# Altium footprint library SOIC28.PcbLib: 3 footprints
Each footprint in its own frame and in the unit in brackets; x right, y up, seen from the top. Pads: shape width x height; smd on the part's side, far side on the other; paste and mask are expansions set on the pad; w line width, h text height; cw(c..) or ccw(c..) is an arc to the next point about the centre after c.
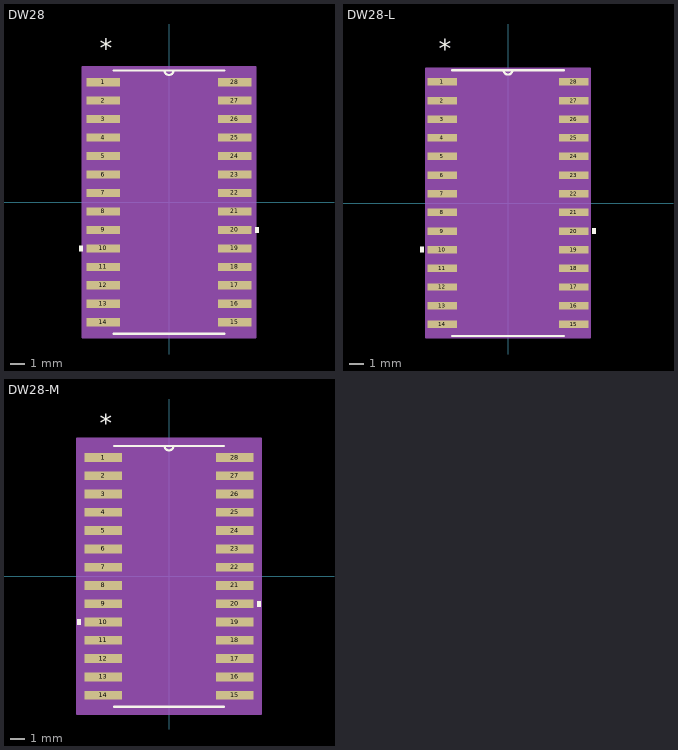
[diagram p0: the footprints below, top view; thin cyan lines are the x and y axes]

## DW28 [mil]
pads (28):
  rect 91x22 smd: 1(-178,325) 2(-178,275) 3(-178,225) 4(-178,175) 5(-178,125) 6(-178,75) 7(-178,25) 8(-178,-25) 9(-178,-75) 10(-178,-125) 11(-178,-175) 12(-178,-225) 13(-178,-275) 14(-178,-325) 15(178,-325) 16(178,-275) 17(178,-225) 18(178,-175) 19(178,-125) 20(178,-75) 21(178,-25) 22(178,25) 23(178,75) 24(178,125) 25(178,175) 26(178,225) 27(178,275) 28(178,325)
Top Overlay:
  region: -233.5,-117.5 -243.5,-117.5 -243.5,-132.5 -233.5,-132.5
  region: 233.5,-67.5 243.5,-67.5 243.5,-82.5 233.5,-82.5
  lines w6: -149.5,-356.5 149.5,-356.5 ; -149.5,356.5 149.5,356.5 ; -12,356.5 ccw(c0,356.5) 12,356.5
  text "*" at -188,392 h50
Mechanical 13:
  lines w0: -12,356.5 ccw(c0,356.5) 12,356.5
  text "*" at -188,392 h50
Mechanical 15:
  region: 233.5,-366.5 -233.5,-366.5 -233.5,366.5 233.5,366.5
  lines w6: -233.5,-366.5 -233.5,366.5 233.5,366.5 233.5,-366.5 -233.5,-366.5
3D body "DW28.stp": height 104.1, standoff 0, extent -209.5,-356.5 209.5,356.5

## DW28-L [mil]
pads (28):
  rect 79x20 smd: 1(-176,325) 2(-176,275) 3(-176,225) 4(-176,175) 5(-176,125) 6(-176,75) 7(-176,25) 8(-176,-25) 9(-176,-75) 10(-176,-125) 11(-176,-175) 12(-176,-225) 13(-176,-275) 14(-176,-325) 15(176,-325) 16(176,-275) 17(176,-225) 18(176,-175) 19(176,-125) 20(176,-75) 21(176,-25) 22(176,25) 23(176,75) 24(176,125) 25(176,175) 26(176,225) 27(176,275) 28(176,325)
Top Overlay:
  region: -225.5,-117.5 -235.5,-117.5 -235.5,-132.5 -225.5,-132.5
  region: 225.5,-67.5 235.5,-67.5 235.5,-82.5 225.5,-82.5
  lines w6: -149.5,-356.5 149.5,-356.5 ; -149.5,356.5 149.5,356.5 ; -12,356.5 ccw(c0,356.5) 12,356.5
  text "*" at -186,390 h50
Mechanical 13:
  lines w0: -12,356.5 ccw(c0,356.5) 12,356.5
  text "*" at -186,390 h50
Mechanical 15:
  region: 219.5,-360.5 -219.5,-360.5 -219.5,360.5 219.5,360.5
  lines w6: -219.5,-360.5 -219.5,360.5 219.5,360.5 219.5,-360.5 -219.5,-360.5
3D body "DW28-L.stp": height 104.1, standoff 0, extent -209.5,-356.5 209.5,356.5

## DW28-M [mil]
pads (28):
  rect 103x24 smd: 1(-180,325) 2(-180,275) 3(-180,225) 4(-180,175) 5(-180,125) 6(-180,75) 7(-180,25) 8(-180,-25) 9(-180,-75) 10(-180,-125) 11(-180,-175) 12(-180,-225) 13(-180,-275) 14(-180,-325) 15(180,-325) 16(180,-275) 17(180,-225) 18(180,-175) 19(180,-125) 20(180,-75) 21(180,-25) 22(180,25) 23(180,75) 24(180,125) 25(180,175) 26(180,225) 27(180,275) 28(180,325)
Top Overlay:
  region: 241.5,-67.5 251.5,-67.5 251.5,-82.5 241.5,-82.5
  region: -241.5,-117.5 -251.5,-117.5 -251.5,-132.5 -241.5,-132.5
  lines w6: -149.5,-356.5 149.5,-356.5 ; -149.5,356.5 149.5,356.5 ; -12,356.5 ccw(c0,356.5) 12,356.5
  text "*" at -190,394 h50
Mechanical 13:
  lines w0: -12,356.5 ccw(c0,356.5) 12,356.5
  text "*" at -190,394 h50
Mechanical 15:
  region: 251.5,-376.5 -251.5,-376.5 -251.5,376.5 251.5,376.5
  lines w6: -251.5,-376.5 251.5,-376.5 251.5,376.5 -251.5,376.5 -251.5,-376.5
3D body "DW28-M.stp": height 104.1, standoff 0, extent -209.5,-356.5 209.5,356.5